# Altium schematic symbol library GDZ8V2LP3-7.SchLib: 1 symbol
Pins are listed as number, name and electrical type; pins without a type are passive.

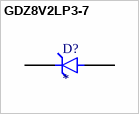
[diagram p0: symbol GDZ8V2LP3-7]

## GDZ8V2LP3-7
designator D?
Diode Zener Single 8.2V 5% 250mW Automotive 2-Pin X3-DFN T/R; MP: GDZ8V2LP3-7; MF: {'manufacturer': u'Diodes Inc.'}; Value: *; Availability: Unavailable; Package: None; Price: None
footprint DIODFN2_62X32X35L19X24N
pins: A, C